# EAGLE library part PINOCCIO-MINI (library Pinoccio)
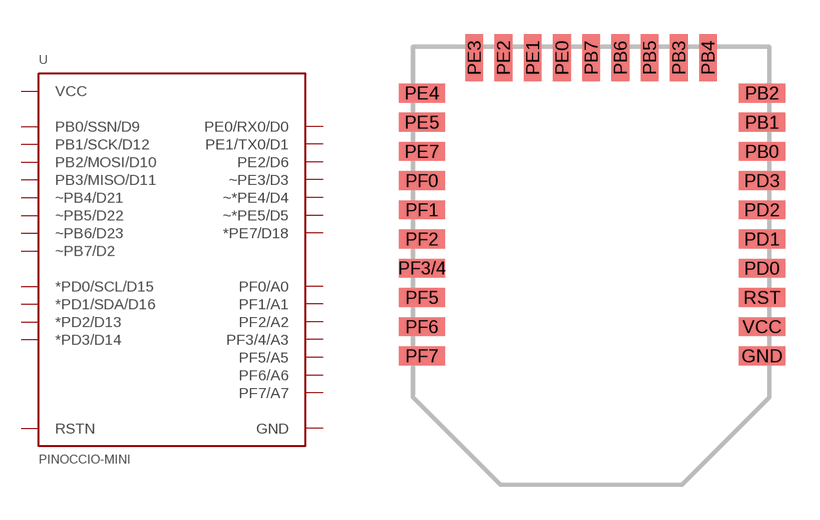
[diagram p43: symbol with the pads of PINOCCIO-MINI; footprint PINOCCIO-MINI]

Designator prefix -

## PINOCCIO-MINI  [PINOCCIO-MINI]
GND  GND
PB0  PB0/SSN/D9
PB1  PB1/SCK/D12
PB2  PB2/MOSI/D10
PB3  PB3/MISO/D11
PB4  ~PB4/D21
PB5  ~PB5/D22
PB6  ~PB6/D23
PB7  ~PB7/D2
PD0  *PD0/SCL/D15
PD1  *PD1/SDA/D16
PD2  *PD2/D13
PD3  *PD3/D14
PE0  PE0/RX0/D0
PE1  PE1/TX0/D1
PE2  PE2/D6
PE3  ~PE3/D3
PE4  ~*PE4/D4
PE5  ~*PE5/D5
PE7  *PE7/D18
PF0  PF0/A0
PF1  PF1/A1
PF2  PF2/A2
PF3/4  PF3/4/A3
PF5  PF5/A5
PF6  PF6/A6
PF7  PF7/A7
RST  RSTN  in
VCC  VCC  pwr

## Footprint PINOCCIO-MINI (pad centres in mm)
smd 2.057 x 0.813: GND 15.177,5.613; PB0 15.177,14.503; PB1 15.177,15.773; PB2 15.177,17.043; PD0 15.177,9.423; PD1 15.177,10.693; PD2 15.177,11.963; PD3 15.177,13.233; PE4 0.394,17.043; PE5 0.394,15.773; PE7 0.394,14.503; PF0 0.394,13.233; PF1 0.394,11.963; PF2 0.394,10.693; PF3/4 0.394,9.423; PF5 0.394,8.153; PF6 0.394,6.883; PF7 0.394,5.613; RST 15.177,8.153; VCC 15.177,6.883
smd 0.813 x 2.057: PB3 11.557,18.58; PB4 12.827,18.58; PB5 10.287,18.58; PB6 9.017,18.58; PB7 7.747,18.58; PE0 6.477,18.58; PE1 5.207,18.58; PE2 3.937,18.58; PE3 2.667,18.58